# EAGLE library part MICROJOYSTICK (library micro joystick)
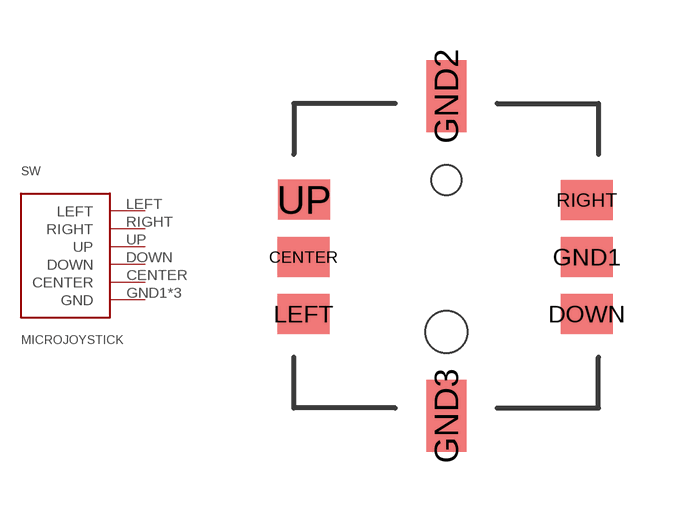
[diagram p0: symbol with the pads of MICROJOYSTICK; footprint MICROJOYSTICK]

Designator prefix SW

## MICROJOYSTICK  [MICROJOYSTICK]
CENTER  CENTER  out
DOWN  DOWN  out
GND1  GND  pwr
GND2  GND  pwr
GND3  GND  pwr
LEFT  LEFT  out
RIGHT  RIGHT  out
UP  UP  out

## Footprint MICROJOYSTICK (pad centres in mm)
smd 1.3 x 1: CENTER -3.575,-0.035; DOWN 3.52,-1.46; GND1 3.52,-0.035; LEFT -3.57,-1.46; RIGHT 3.52,1.39; UP -3.555,1.405
smd 1 x 1.8: GND2 0,4; GND3 0,-4
hole 0.75 at 0,1.9
hole 1.05 at 0,-1.9